# Altium footprint library 559350410.PcbLib: 1 footprints
Each footprint in its own frame and in the unit in brackets; x right, y up, seen from the top. Pads: shape width x height; smd on the part's side, far side on the other; paste and mask are expansions set on the pad; w line width, h text height; cw(c..) or ccw(c..) is an arc to the next point about the centre after c.
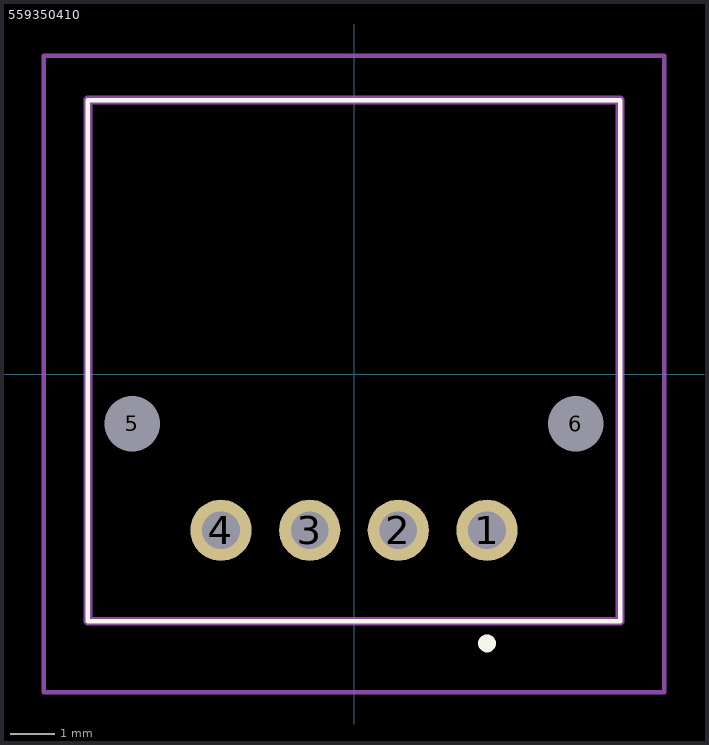
[diagram p0: the footprint, top view; thin cyan lines are the x and y axes]

## 559350410 [mm]
pads (6):
  round 1.381 hole 0.85: 1(3,-3.525) 2(1,-3.525) 3(-1,-3.525) 4(-3,-3.525)
  round 0.625 hole 1.25 unplated: 5(-5,-1.125) 6(5,-1.125)
L26-Silk Screen Top (Multiple PADS layers...):
  lines w0.1: -6,-5.575 6,-5.575 6,6.175 -6,6.175 -6,-5.575
  lines w0.2: 2.9,-6.075 2.9,-6.075 ; 2.9,-6.075 cw(c3,-6.075) 3.1,-6.075 ; 2.9,-6.075 ccw(c3,-6.075) 3.1,-6.075 ; 3.1,-6.075 3.1,-6.075
L15 (Multiple PADS layers...):
  lines w0.2: -6,-5.575 6,-5.575 6,6.175 -6,6.175 -6,-5.575
L20:
  lines w0.1: -7,-7.175 7,-7.175 7,7.175 -7,7.175 -7,-7.175